# Altium footprint library PcbLib1.PcbLib: 20 footprints (part 2 of 2)
Each footprint in its own frame and in the unit in brackets; x right, y up, seen from the top. Pads: shape width x height; smd on the part's side, far side on the other; paste and mask are expansions set on the pad; w line width, h text height; cw(c..) or ccw(c..) is an arc to the next point about the centre after c.
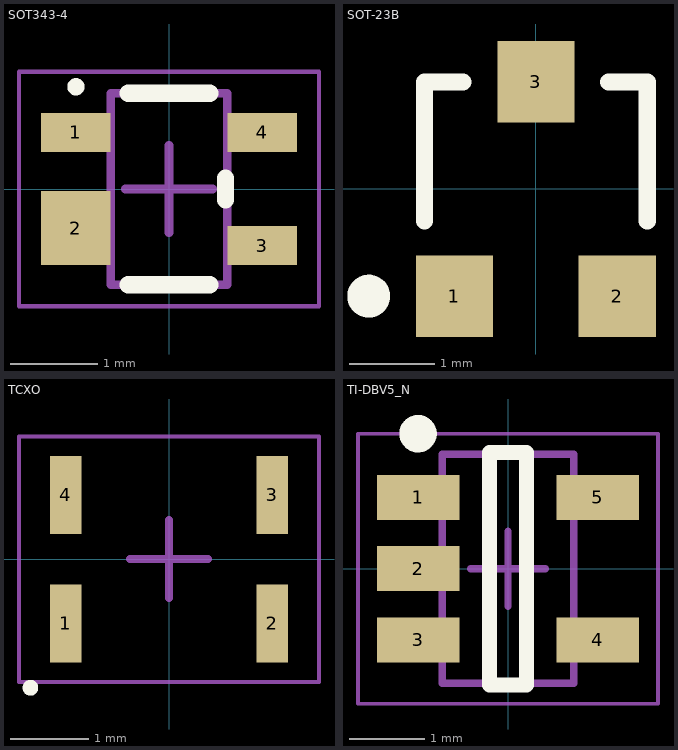
[diagram p1: the footprints below, top view; thin cyan lines are the x and y axes]

## SOT343-4 [mm] "SOT343, 4-Leads, Body 2,00x2,10mm, Pitch 1,30mm, IPC Medium Density"
height 0.94
pads (4):
  rect 0.8x0.45 smd: 1(-1.07,0.65) 3(1.07,-0.65) 4(1.07,0.65)
  rect 0.8x0.85 smd: 2(-1.07,-0.45)
Top Overlay:
  circle w0.1: c-1.07,1.175 r0.05
  lines w0.2: -0.47,-1.1 0.47,-1.1 ; -0.47,1.1 0.47,1.1 ; 0.65,-0.125 0.65,0.125
Mechanical 13:
  lines w0.1: -0.67,-1.1 -0.67,1.1 0.67,1.1 0.67,-1.1 -0.67,-1.1
Mechanical 15:
  lines w0.05: -1.725,-1.35 -1.725,1.35 1.725,1.35 1.725,-1.35 -1.725,-1.35
  lines w0.1: -0.5,0 0.5,0 ; 0,-0.5 0,0.5
3D body: height 0.94, standoff 0, extent -0.9,-1.1 0.9,1.1

## SOT-23B [mm] "SOT-23; 3 Leads; Body 3.0 x 2.6 mm, inc. leads (LxW max)"
height 1.09
pads (3):
  rect 0.9x0.95 smd: 1(-0.95,-1.25) 2(0.95,-1.25) 3(0,1.25)
Top Overlay:
  circle w0.25: c-1.95,-1.25 r0.125
  lines w0.2: -1.3,-0.375 -1.3,1.25 -0.85,1.25 ; 0.85,1.25 1.3,1.25 1.3,-0.375
3D body "BAV99.stp": height 1.1, standoff 0, extent -1.45,-1.15 1.45,1.15

## TCXO [mm]
height 0.9
pads (4):
  rect 0.4x1 smd: 1(-1.325,-0.825) 2(1.325,-0.825) 3(1.325,0.825) 4(-1.325,0.825)
Top Overlay:
  circle w0.1: c-1.778,-1.651 r0.05
Mechanical 15:
  lines w0.05: -1.925,-1.575 1.925,-1.575 1.925,1.575 -1.925,1.575 -1.925,-1.575
  lines w0.1: -0.5,0 0.5,0 ; 0,-0.5 0,0.5
3D body "SMD3225.STP": height 0.61, standoff 0, extent -1.6,-1.25 1.6,1.25

## TI-DBV5_N [mm] "SOT23, 5-Leads, Body 2.9x1.6mm, Pitch 0.95mm, IPC Medium Density"
height 1.45
pads (5):
  rect 1.1x0.6 smd: 1(-1.2,0.95) 2(-1.2,0) 3(-1.2,-0.95) 4(1.2,-0.95) 5(1.2,0.95)
Top Overlay:
  circle w0.25: c-1.2,1.8 r0.125
  lines w0.2: -0.25,-1.55 -0.25,1.55 0.25,1.55 0.25,-1.55 -0.25,-1.55
Mechanical 13:
  lines w0.1: -0.875,-1.525 0.875,-1.525 0.875,1.525 -0.875,1.525 -0.875,-1.525
Mechanical 15:
  lines w0.05: -2,-1.8 2,-1.8 2,1.8 -2,1.8 -2,-1.8
  lines w0.1: -0.5,0 0.5,0 ; 0,-0.5 0,0.5
3D body: height 1.45, standoff 0, extent -0.875,-1.525 0.875,1.525